# EAGLE library part MOTOR_DRIVER (library Linus Eagle Library)
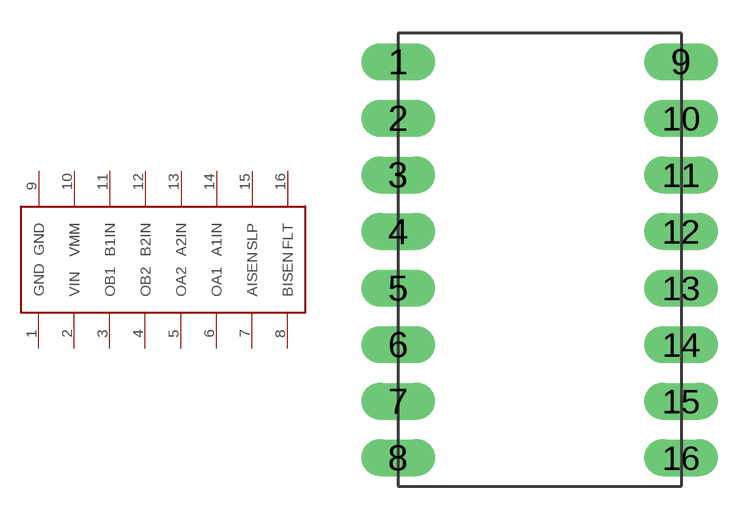
[diagram p2: symbol with the pads of MOTOR_DRIVER; footprint MOTOR_DRIVER]

Designator prefix -

## MOTOR_DRIVER  [MOTOR_DRIVER]
1  GND
2  VIN
3  OB1
4  OB2
5  OA2
6  OA1
7  AISEN
8  BISEN
9  GND
10  VMM
11  B1IN
12  B2IN
13  A2IN
14  A1IN
15  SLP
16  FLT

## Footprint MOTOR_DRIVER (pad centres in mm)
drill 1.016 pad 1.651 long: 1 -12.7,8.89; 2 -12.7,6.35; 3 -12.7,3.81; 4 -12.7,1.27; 5 -12.7,-1.27; 6 -12.7,-3.81; 7 -12.7,-6.35; 8 -12.7,-8.89; 9 0,8.89; 10 0,6.35; 11 0,3.81; 12 0,1.27; 13 0,-1.27; 14 0,-3.81; 15 0,-6.35; 16 0,-8.89